# EAGLE library part TLC5943 (library ti_tlc)
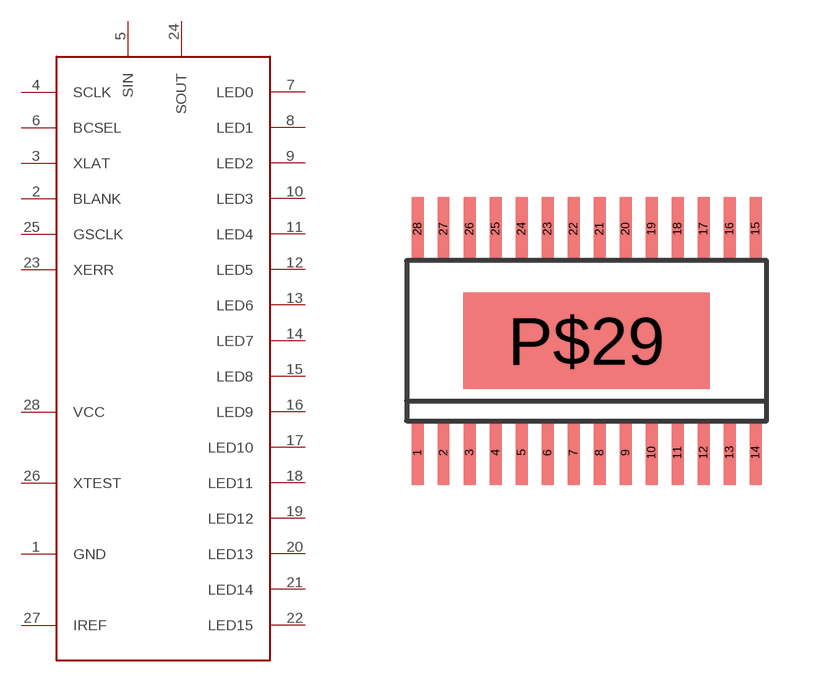
[diagram p1: symbol with the pads of HTSSOP-28-POWERPAD; footprint HTSSOP-28-POWERPAD]

Designator prefix -

## TLC5943  [HTSSOP-28-POWERPAD]
1  GND
2  BLANK
3  XLAT
4  SCLK
5  SIN
6  BCSEL
7  LED0
8  LED1
9  LED2
10  LED3
11  LED4
12  LED5
13  LED6
14  LED7
15  LED8
16  LED9
17  LED10
18  LED11
19  LED12
20  LED13
21  LED14
22  LED15
23  XERR
24  SOUT
25  GSCLK
26  XTEST
27  IREF
28  VCC

## Footprint HTSSOP-28-POWERPAD (pad centres in mm)
smd 0.3 x 1.6: 1 -4.225,-2.8; 2 -3.575,-2.8; 3 -2.925,-2.8; 4 -2.275,-2.8; 5 -1.625,-2.8; 6 -0.975,-2.8; 7 -0.325,-2.8; 8 0.325,-2.8; 9 0.975,-2.8; 10 1.625,-2.8; 11 2.275,-2.8; 12 2.925,-2.8; 13 3.575,-2.8; 14 4.225,-2.8; 15 4.225,2.8; 16 3.575,2.8; 17 2.925,2.8; 18 2.275,2.8; 19 1.625,2.8; 20 0.975,2.8; 21 0.325,2.8; 22 -0.325,2.8; 23 -0.975,2.8; 24 -1.625,2.8; 25 -2.275,2.8; 26 -2.925,2.8; 27 -3.575,2.8; 28 -4.225,2.8
smd 6.17 x 2.4: P$29 0,0